# Altium schematic symbol library Leonardo_Rev3d.SCHLIB: 32 symbols
Pins are listed as number, name and electrical type; pins without a type are passive.

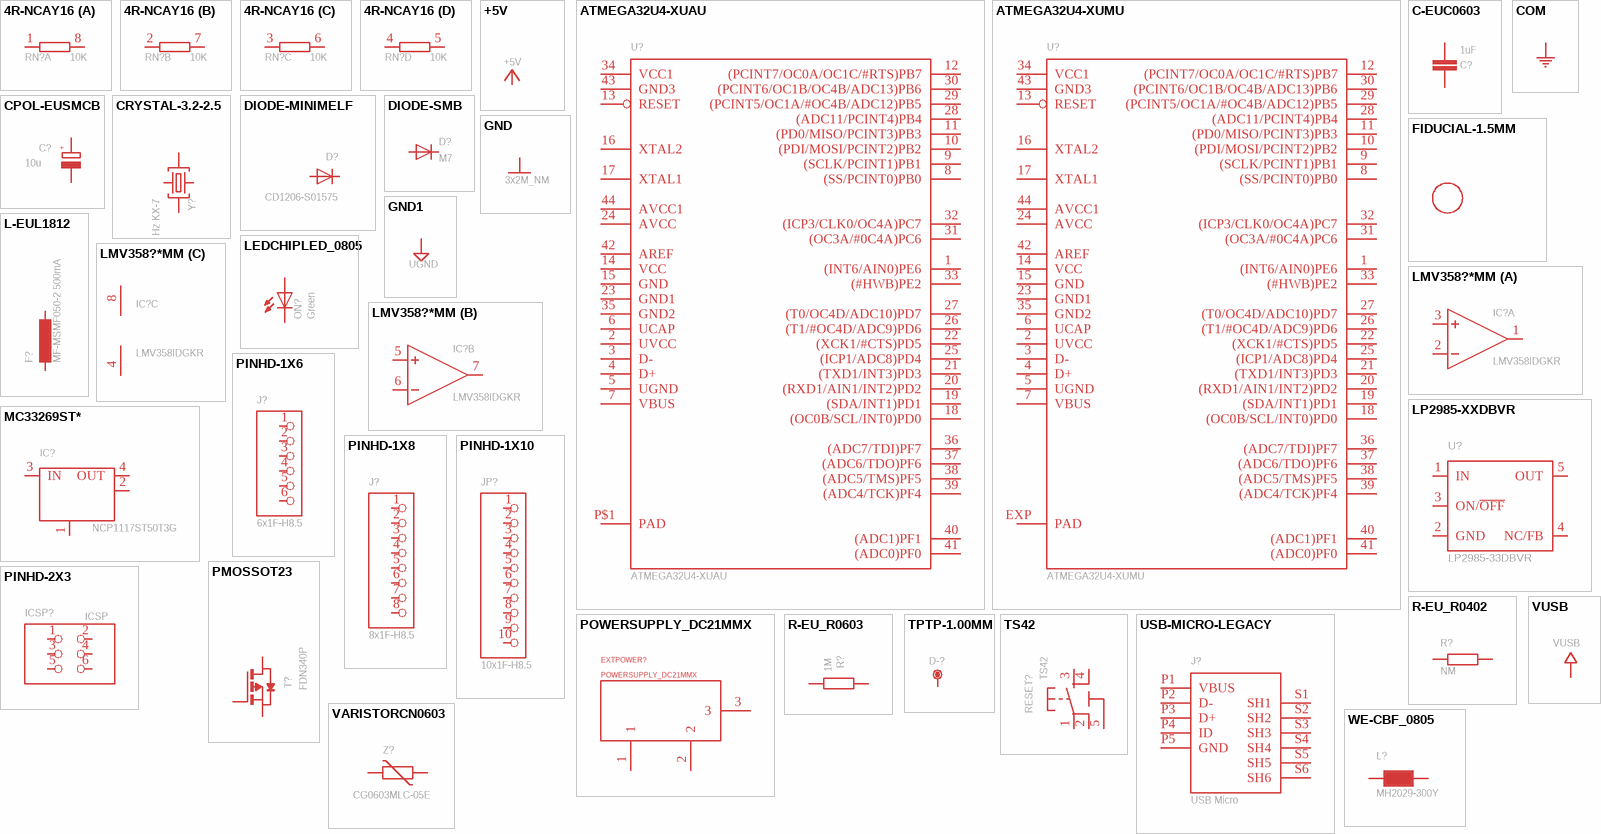
[diagram p0: symbols 4R-NCAY16 to WE-CBF_0805]

## 4R-NCAY16
designator RN?, comment 10K
Array Chip Resistor   Source: RS Component / Phycomp; GateName_1: A; SymbolName_1: R1NV; GateName_2: B; GateName_3: C; GateName_4: D; DeviceName: CAY16; DeviceSetName: 4R-N; SymbolName_2: R1NV; SymbolName_3: R1NV; SymbolName_4: R1NV; LibraryName: resistor-dil
footprint CAY16
part A pins: 1, 8 2
part B pins: 2 1, 7 2
part C pins: 3 1, 6 2
part D pins: 4 1, 5 2

## +5V
designator P+?
SUPPLY SYMBOL; GateName_1: 1; SymbolName_1: +5V; LibraryName: supply1; DeviceSetName: +5V
pins: ?1 +5V

## ATMEGA32U4-XUAU
designator U?
GateName_1: G$1; DeviceName: AU; SymbolName_1: ATMEGA32U4; LibraryName: SmartPrj; DeviceSetName: ATMEGA32U4-XU
footprint TQFP44-PAD
pins: 1 (INT6/AIN0)PE6, 2 UVCC, 3 D-, 4 D+, 5 UGND, 6 UCAP, 7 VBUS, 8 (SS/PCINT0)PB0, 9 (SCLK/PCINT1)PB1, 10 (PDI/MOSI/PCINT2)PB2, 11 (PD0/MISO/PCINT3)PB3, 12 (PCINT7/OC0A/OC1C/#RTS)PB7, 13 RESET, 14 VCC, 15 GND, 16 XTAL2, 17 XTAL1, 18 (OC0B/SCL/INT0)PD0, 19 (SDA/INT1)PD1, 20 (RXD1/AIN1/INT2)PD2, 21 (TXD1/INT3)PD3, 22 (XCK1/#CTS)PD5, 23 GND1, 24 AVCC, 25 (ICP1/ADC8)PD4, 26 (T1/#OC4D/ADC9)PD6, 27 (T0/OC4D/ADC10)PD7, 28 (ADC11/PCINT4)PB4, 29 (PCINT5/OC1A/#OC4B/ADC12)PB5, 30 (PCINT6/OC1B/OC4B/ADC13)PB6, 31 (OC3A/#0C4A)PC6, 32 (ICP3/CLK0/OC4A)PC7, 33 (#HWB)PE2, 34 VCC1, 35 GND2, 36 (ADC7/TDI)PF7, 37 (ADC6/TDO)PF6, 38 (ADC5/TMS)PF5, 39 (ADC4/TCK)PF4, 40 (ADC1)PF1, 41 (ADC0)PF0, 42 AREF, 43 GND3, 44 AVCC1, P$1 PAD

## ATMEGA32U4-XUMU
designator U?
GateName_1: G$1; DeviceName: MU; SymbolName_1: ATMEGA32U4; LibraryName: SmartPrj; DeviceSetName: ATMEGA32U4-XU
footprint QFN44ML7X7
pins: 1 (INT6/AIN0)PE6, 2 UVCC, 3 D-, 4 D+, 5 UGND, 6 UCAP, 7 VBUS, 8 (SS/PCINT0)PB0, 9 (SCLK/PCINT1)PB1, 10 (PDI/MOSI/PCINT2)PB2, 11 (PD0/MISO/PCINT3)PB3, 12 (PCINT7/OC0A/OC1C/#RTS)PB7, 13 RESET, 14 VCC, 15 GND, 16 XTAL2, 17 XTAL1, 18 (OC0B/SCL/INT0)PD0, 19 (SDA/INT1)PD1, 20 (RXD1/AIN1/INT2)PD2, 21 (TXD1/INT3)PD3, 22 (XCK1/#CTS)PD5, 23 GND1, 24 AVCC, 25 (ICP1/ADC8)PD4, 26 (T1/#OC4D/ADC9)PD6, 27 (T0/OC4D/ADC10)PD7, 28 (ADC11/PCINT4)PB4, 29 (PCINT5/OC1A/#OC4B/ADC12)PB5, 30 (PCINT6/OC1B/OC4B/ADC13)PB6, 31 (OC3A/#0C4A)PC6, 32 (ICP3/CLK0/OC4A)PC7, 33 (#HWB)PE2, 34 VCC1, 35 GND2, 36 (ADC7/TDI)PF7, 37 (ADC6/TDO)PF6, 38 (ADC5/TMS)PF5, 39 (ADC4/TCK)PF4, 40 (ADC1)PF1, 41 (ADC0)PF0, 42 AREF, 43 GND3, 44 AVCC1, EXP PAD

## C-EUC0603
designator C?, comment 1uF
CAPACITOR, European symbol; GateName_1: G$1; SymbolName_1: C-EU; DeviceName: C0603; LibraryName: SmartPrj; DeviceSetName: C-EU
footprint C0603-ROUND
pins: 1, 2

## COM
designator U$?  (value not drawn)
GateName_1: G$1; SymbolName_1: COM; LibraryName: MyPOW; DeviceSetName: COM
pins: ?1 COM

## CPOL-EUSMCB
designator C?, comment 10u
POLARIZED CAPACITOR, European symbol; GateName_1: G$1; SymbolName_1: CPOL; DeviceName: SMCB; DeviceSetName: CPOL-EU; LibraryName: rcl; +: +
footprint SMC_B
pins: +, -

## CRYSTAL-3.2-2.5
designator Y?, comment 16MHz KX-7
GateName_1: G$1; SymbolName_1: CRYSTAL-KX7; DeviceSetName: CRYSTAL-3.2-2.5; LibraryName: SmartPrj; 1: 1; 2: 2; 3: 3
footprint CRYSTAL-3.2-2.5
pins: 1 C1, 2 GND, 3 C2, 4 GND

## DIODE-MINIMELF
designator D?, comment CD1206-S01575
DIODE; GateName_1: G$1; SymbolName_1: D; DeviceName: MINIMELF; DeviceSetName: DIODE-; LibraryName: diode
footprint MINIMELF
pins: A, C

## DIODE-SMB
designator D?, comment M7
DIODE; GateName_1: G$1; SymbolName_1: D; DeviceName: SMB; DeviceSetName: DIODE-; LibraryName: diode
footprint SMB
pins: A, C

## FIDUCIAL-1.5MM
designator FID?, comment DNP
Fiducial mount; GateName_1: G$1; SymbolName_1: ARDUINO_FIDUCIAL; DeviceName: -1.5MM; LibraryName: Arduino-utility; DeviceSetName: FIDUCIAL; DATASHEET: DNP; DISTRIBUTOR-LINK: DNP; DISTRIBUTOR-PN: DNP; MANUFACTURER: DNP; MANUFACTURER-PN: DNP
footprint FD-1-1.5

## GND
designator GND?, comment 3x2M_NM
SUPPLY SYMBOL; GateName_1: 1; SymbolName_1: GND; LibraryName: supply1; DeviceSetName: GND
pins: ?1 GND

## GND1
designator SUPPLY?, comment UGND
SUPPLY SYMBOL; GateName_1: G$1; SymbolName_1: GND1; LibraryName: supply2; DeviceSetName: GND1
pins: ?1 GND1

## L-EUL1812
designator F?, comment MF-MSMF050-2 500mA
INDUCTOR, European symbol; GateName_1: G$1; SymbolName_1: L-EU; DeviceName: L1812; LibraryName: rcl; DeviceSetName: L-EU
footprint L1812
pins: 1, 2

## LEDCHIPLED_0805
designator ON?, comment Green
LED   OSRAM: - CHIPLED LG R971, LG N971, LY N971, LG Q971, LY Q971, LO R971, LY R971 LH N974, LH R974 LS Q976, LO Q976, LY Q976 LO Q996 - Hyper CHIPLED LW Q18S LB Q993, LB Q99A, LB R99A - SideLED LS A670, LO A670, LY A670, LG A670, LP A670 LB A673, LV A673, LT A673, LW A673 LH A674 LY A675 LS A676, LA A676, LO A676, LY A676, LW A676 LS A679, LY A679, LG A679 -  Hyper Micro SIDELED® LS Y876, LA Y876, LO Y876, LY Y876 LT Y87S - SmartLED LW L88C, LW L88S LB L89C, LB L89S, LG L890 LS L89K, LO L89K, LY L89K LS L896, LA L896, LO L896, LY L896 - TOPLED LS T670, LO T670, LY T670, LG T670, LP T670 LSG T670, LSP T670, LSY T670, LOP T670, LYG T670 LG T671, LOG T671, LSG T671 LB T673, LV T673, LT T673, LW T673 LH T674 LS T676, LA T676, LO T676, LY T676, LB T676, LH T676, LSB T676, LW T676 LB T67C, LV T67C, LT T67C, LS T67K, LO T67K, LY T67K, LW E67C LS E67B, LA E67B, LO E67B, LY E67B, LB E67C, LV E67C, LT E67C LW T67C LS T679, LY T679, LG T679 LS T770, LO T770, LY T770, LG T770, LP T770 LB T773, LV T773, LT T773, LW T773 LH T774 LS E675, LA E675, LY E675, LS T675 LS T776, LA T776, LO T776, LY T776, LB T776 LHGB T686 LT T68C, LB T68C - Hyper Mini TOPLED® LB M676 - Mini TOPLED Santana® LG M470 LS M47K, LO M47K, LY M47K    Source: http://www.osram.convergy.de   LUXEON: - LUMILED® LXK2-PW12-R00, LXK2-PW12-S00, LXK2-PW14-U00, LXK2-PW14-V00 LXK2-PM12-R00, LXK2-PM12-S00, LXK2-PM14-U00 LXK2-PE12-Q00, LXK2-PE12-R00, LXK2-PE12-S00, LXK2-PE14-T00, LXK2-PE14-U00 LXK2-PB12-K00, LXK2-PB12-L00, LXK2-PB12-M00, LXK2-PB14-N00, LXK2-PB14-P00, LXK2-PB14-Q00 LXK2-PR12-L00, LXK2-PR12-M00, LXK2-PR14-Q00, LXK2-PR14-R00 LXK2-PD12-Q00, LXK2-PD12-R00, LXK2-PD12-S00 LXK2-PH12-R00, LXK2-PH12-S00 LXK2-PL12-P00, LXK2-PL12-Q00, LXK2-PL12-R00    Source: www.luxeon.com   KINGBRIGHT:   KA-3528ASYC Source: www.kingbright.com; GateName_1: G$1; DeviceName: CHIPLED_0805; SymbolName_1: LED; LibraryName: led; DeviceSetName: LED
footprint CHIPLED_0805
pins: A, C

## LMV358?*MM
designator IC?, comment LMV358IDGKR
Dual General Purpose, Low Voltage, Rail-to-Rail Output Operational Amplifiers   Source: http://www.national.com/mpf/LM/LMV321.html http://www.national.com/dt/lmv_qual.pdf; GateName_1: A; SymbolName_1: OPAMP; GateName_2: B; GateName_3: P; SymbolName_3: PWR+-; DeviceName: MM; DeviceSetName: LMV358?*; SymbolName_2: OPAMP; LibraryName: linear
footprint MSOP08
part A pins: 1 OUT, 2 -IN, 3 +IN
part B pins: 5 +IN, 6 -IN, 7 OUT
part C pins: 4 V-, 8 V+

## LP2985-XXDBVR
designator U?, comment LP2985-33DBVR
ULTRALOW-POWER 50-mA LOW-DROPOUT LINEAR REGULATORS   50-mA Low-Dropout Regulator Source: http://focus.ti.com/lit/ds/symlink/tps77001.pdf; GateName_1: G$1; SymbolName_1: LP2985-XXDBVR; LibraryName: SmartPrj; DeviceSetName: LP2985-XXDBVR
footprint SOT23-DBV
pins: 1 IN, 2 GND, 3 ON/~{OFF}, 4 NC/FB, 5 OUT

## MC33269ST*
designator IC?, comment NCP1117ST50T3G
Adjustable Output Low Dropout Voltage Regulator 800 mA   Source: http://www.onsemi.com/pub/Collateral/MC33269-D.PDF; GateName_1: G$1; SymbolName_1: VREG-O2; DeviceSetName: MC33269ST*; LibraryName: linear
footprint SOT223
pins: 1 GND/ADJ, 2 OUT, 3 IN, 4 OUT

## PINHD-1X6
designator J?, comment 6x1F-H8.5
PIN HEADER; GateName_1: A; SymbolName_1: PINHD6; DeviceSetName: PINHD-1X6; LibraryName: SmartPrj
footprint 1X06
pins: 1, 2, 3, 4, 5, 6

## PINHD-1X8
designator J?, comment 8x1F-H8.5
PIN HEADER; GateName_1: A; SymbolName_1: PINHD8; DeviceSetName: PINHD-1X8; LibraryName: SmartPrj
footprint 1X08
pins: 1, 2, 3, 4, 5, 6, 7, 8

## PINHD-1X10
designator JP?, comment 10x1F-H8.5
PIN HEADER; GateName_1: A; SymbolName_1: PINHD10; DeviceSetName: PINHD-1X10; LibraryName: SmartPrj
footprint 1X10
pins: 1, 2, 3, 4, 5, 6, 7, 8, 9, 10

## PINHD-2X3
designator ICSP?, comment ICSP
PIN HEADER; GateName_1: A; SymbolName_1: PINH2X3; DeviceSetName: PINHD-2X3; LibraryName: SmartPrj
footprint 2X03
pins: 1, 2, 3, 4, 5, 6

## PMOSSOT23
designator T?, comment FDN340P
MOS FET; GateName_1: A; SymbolName_1: P_MOSFET; DeviceSetName: PMOSSOT23; LibraryName: zetex
footprint SOT-23
pins: 1 D, 2 S, 3 G

## POWERSUPPLY_DC21MMX
designator EXTPOWER?
GateName_1: G$1; SymbolName_1: POWERSUPPLY_DC21PWR; DeviceName: X; LibraryName: SmartPrj; DeviceSetName: POWERSUPPLY_DC21MM
footprint POWERSUPPLY_DC-21MM
pins: 1, 2, 3

## R-EU_R0402
designator R?, comment NM
RESISTOR, European symbol; GateName_1: G$1; SymbolName_1: R-EU; DeviceName: R0402; DeviceSetName: R-EU_; LibraryName: SmartPrj
footprint R0402
pins: 1, 2

## R-EU_R0603
designator R?, comment 1M
RESISTOR, European symbol; GateName_1: G$1; SymbolName_1: R-EU; DeviceName: R0603; DeviceSetName: R-EU_; LibraryName: SmartPrj
footprint R0603-ROUND
pins: 1, 2

## TPTP-1.00MM
designator D-?, comment DNP  (value not drawn)
Testpoint; GateName_1: G$1; DeviceName: TP-1.00MM; DeviceSetName: TP; SymbolName_1: TESTPOINT; LibraryName: Arduino-utility; DATASHEET: DNP; DISTRIBUTOR-LINK: DNP; DISTRIBUTOR-PN: DNP; MANUFACTURER: DNP; MANUFACTURER-PN: DNP
footprint TP-1.00MM
pins: X P$1

## TS42
designator RESET?
TS42 Dongnan Electronics Tact switch VDC 12V - 50mA; GateName_1: G$1; SymbolName_1: ST-MOD_V1.4_TS42; LibraryName: SmartPrj; DeviceSetName: TS42
footprint TS42
pins: 1, 2, 3, 4, 5 5-GND

## USB-MICRO-LEGACY
designator J?, comment USB Micro
MANUFACTURER: FCI; MANUFACTURER-PN: 10118193-0001LF; GateName_1: G$1; SymbolName_1: MYCON2_USB; DeviceSetName: USB-MICRO-LEGACY; LibraryName: Arduino-connectors; DATASHEET: http://media.digikey.com/pdf/Data%20Sheets/FCI%20PDFs/10118193-0001LF_Webpage.PDF; DISTRIBUTOR-LINK: http://www.digikey.it/product-detail/en/10118193-0001LF/609-4616-2-ND/2785388; DISTRIBUTOR-PN: 609-4616-2-ND
footprint CON2_USB_MICRO_B_AT
pins: P1 VBUS, P2 D-, P3 D+, P4 ID, P5 GND, S1 SH1, S2 SH2, S3 SH3, S4 SH4, S5 SH5, S6 SH6

## VARISTORCN0603
designator Z?, comment CG0603MLC-05E
VARISTOR; GateName_1: G$1; DeviceName: CN0603; SymbolName_1: VARISTOR; LibraryName: varistor; DeviceSetName: VARISTOR
footprint CT/CN0603
pins: 1, 2

## VUSB
designator U$?
GateName_1: G$1; SymbolName_1: VUSB; LibraryName: MyPOW; DeviceSetName: VUSB
pins: ?1 VUSB

## WE-CBF_0805
designator L?, comment MH2029-300Y
SMD EMI Suppression Ferrite Beads - excellent anti-EMI properties - low DCR - impedances till 3000 ohms - rated current up to 6 A; GateName_1: G$1; SymbolName_1: L; DeviceName: _0805; DeviceSetName: WE-CBF; LibraryName: wuerth-elektronik
footprint 0805
pins: 1, 2